# Altium footprint library HEADER-8PINF-2.54MM.PcbLib: 1 footprints
Each footprint in its own frame and in the unit in brackets; x right, y up, seen from the top. Pads: shape width x height; smd on the part's side, far side on the other; paste and mask are expansions set on the pad; w line width, h text height; cw(c..) or ccw(c..) is an arc to the next point about the centre after c.
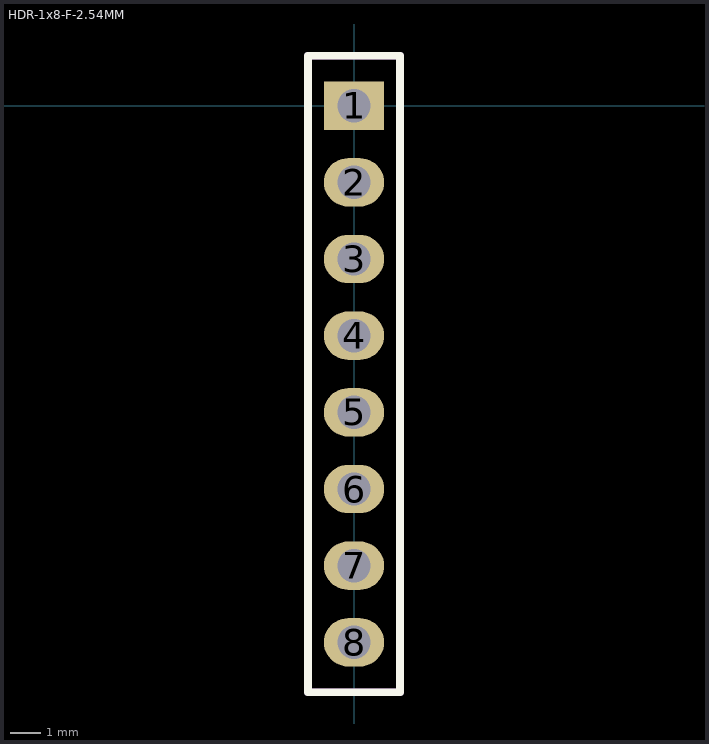
[diagram p0: the footprint, top view; thin cyan lines are the x and y axes]

## HDR-1x8-F-2.54MM [mm]
pads (8):
  rect 2x1.6 hole 1.1: 1(0,0)
  oval 2x1.6 hole 1.1: 2(0,-2.54) 3(0,-5.08) 4(0,-7.62) 5(0,-10.16) 6(0,-12.7) 7(0,-15.24) 8(0,-17.78)
Top Overlay:
  lines w0.254: -1.524,-19.431 -1.524,1.651 1.524,1.651 1.524,-19.431 -1.524,-19.431
Mechanical 29:
  circle w0.5: c0,0 r0.25
  lines w0.254: -1.524,-19.431 -1.524,1.651 1.524,1.651 1.524,-19.431 -1.524,-19.431
  text ".Designator" at 0.508,-17.018 h1.52
3D body "m20-7820842_asm.stp": height 8.7, standoff -2.8, extent -1.23,-19.25 1.27,1.47